# EAGLE library part BS62LV256 (library memory-bsi)
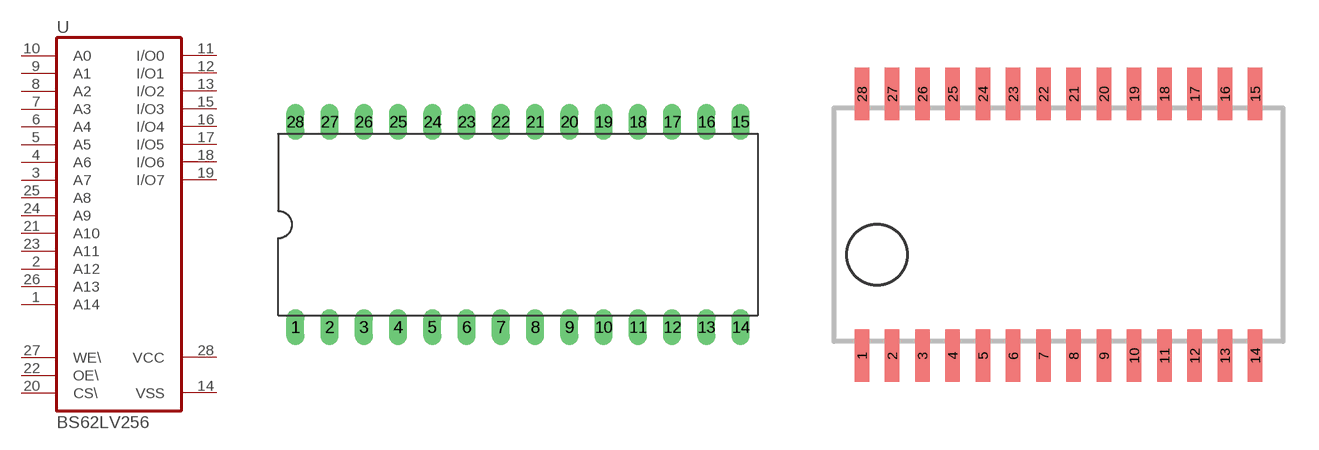
[diagram p1: symbol with the pads of DIL-28; footprints DIL-28, SOP-28]

Designator prefix -

## BS62LV256P  [DIL-28]
1  A14  in
2  A12  in
3  A7  in
4  A6  in
5  A5  in
6  A4  in
7  A3  in
8  A2  in
9  A1  in
10  A0  in
11  I/O0
12  I/O1
13  I/O2
14  VSS  pwr
15  I/O3
16  I/O4
17  I/O5
18  I/O6
19  I/O7
20  CS\  in
21  A10  in
22  OE\  in
23  A11  in
24  A9  in
25  A8  in
26  A13  in
27  WE\  in
28  VCC  pwr

## BS62LV256S  [SOP-28]
Pads as for DIL-28

## Footprint DIL-28 (pad centres in mm)
drill 0.813 long: 1 -13.97,-7.62; 2 -11.43,-7.62; 3 -8.89,-7.62; 4 -6.35,-7.62; 5 -3.81,-7.62; 6 -1.27,-7.62; 7 1.27,-7.62; 8 3.81,-7.62; 9 6.35,-7.62; 10 8.89,-7.62; 11 11.43,-7.62; 12 13.97,-7.62; 13 16.51,-7.62; 14 19.05,-7.62; 15 19.05,7.62; 16 16.51,7.62; 17 13.97,7.62; 18 11.43,7.62; 19 8.89,7.62; 20 6.35,7.62; 21 3.81,7.62; 22 1.27,7.62; 23 -1.27,7.62; 24 -3.81,7.62; 25 -6.35,7.62; 26 -8.89,7.62; 27 -11.43,7.62; 28 -13.97,7.62

## Footprint SOP-28 (pad centres in mm)
smd 0.6 x 2.2: 1 1.905,-10.58; 2 3.175,-10.58; 3 4.445,-10.58; 4 5.715,-10.58; 5 6.985,-10.58; 6 8.255,-10.58; 7 9.525,-10.58; 8 10.795,-10.58; 9 12.065,-10.58; 10 13.335,-10.58; 11 14.605,-10.58; 12 15.875,-10.58; 13 17.145,-10.58; 14 18.415,-10.58; 15 18.415,0.42; 16 17.145,0.42; 17 15.875,0.42; 18 14.605,0.42; 19 13.335,0.42; 20 12.065,0.42; 21 10.795,0.42; 22 9.525,0.42; 23 8.255,0.42; 24 6.985,0.42; 25 5.715,0.42; 26 4.445,0.42; 27 3.175,0.42; 28 1.905,0.42